# Altium footprint library SIGMA_2D.PcbLib: 200 footprints (part 11 of 13)
Each footprint in its own frame and in the unit in brackets; x right, y up, seen from the top. Pads: shape width x height; smd on the part's side, far side on the other; paste and mask are expansions set on the pad; w line width, h text height; cw(c..) or ccw(c..) is an arc to the next point about the centre after c.
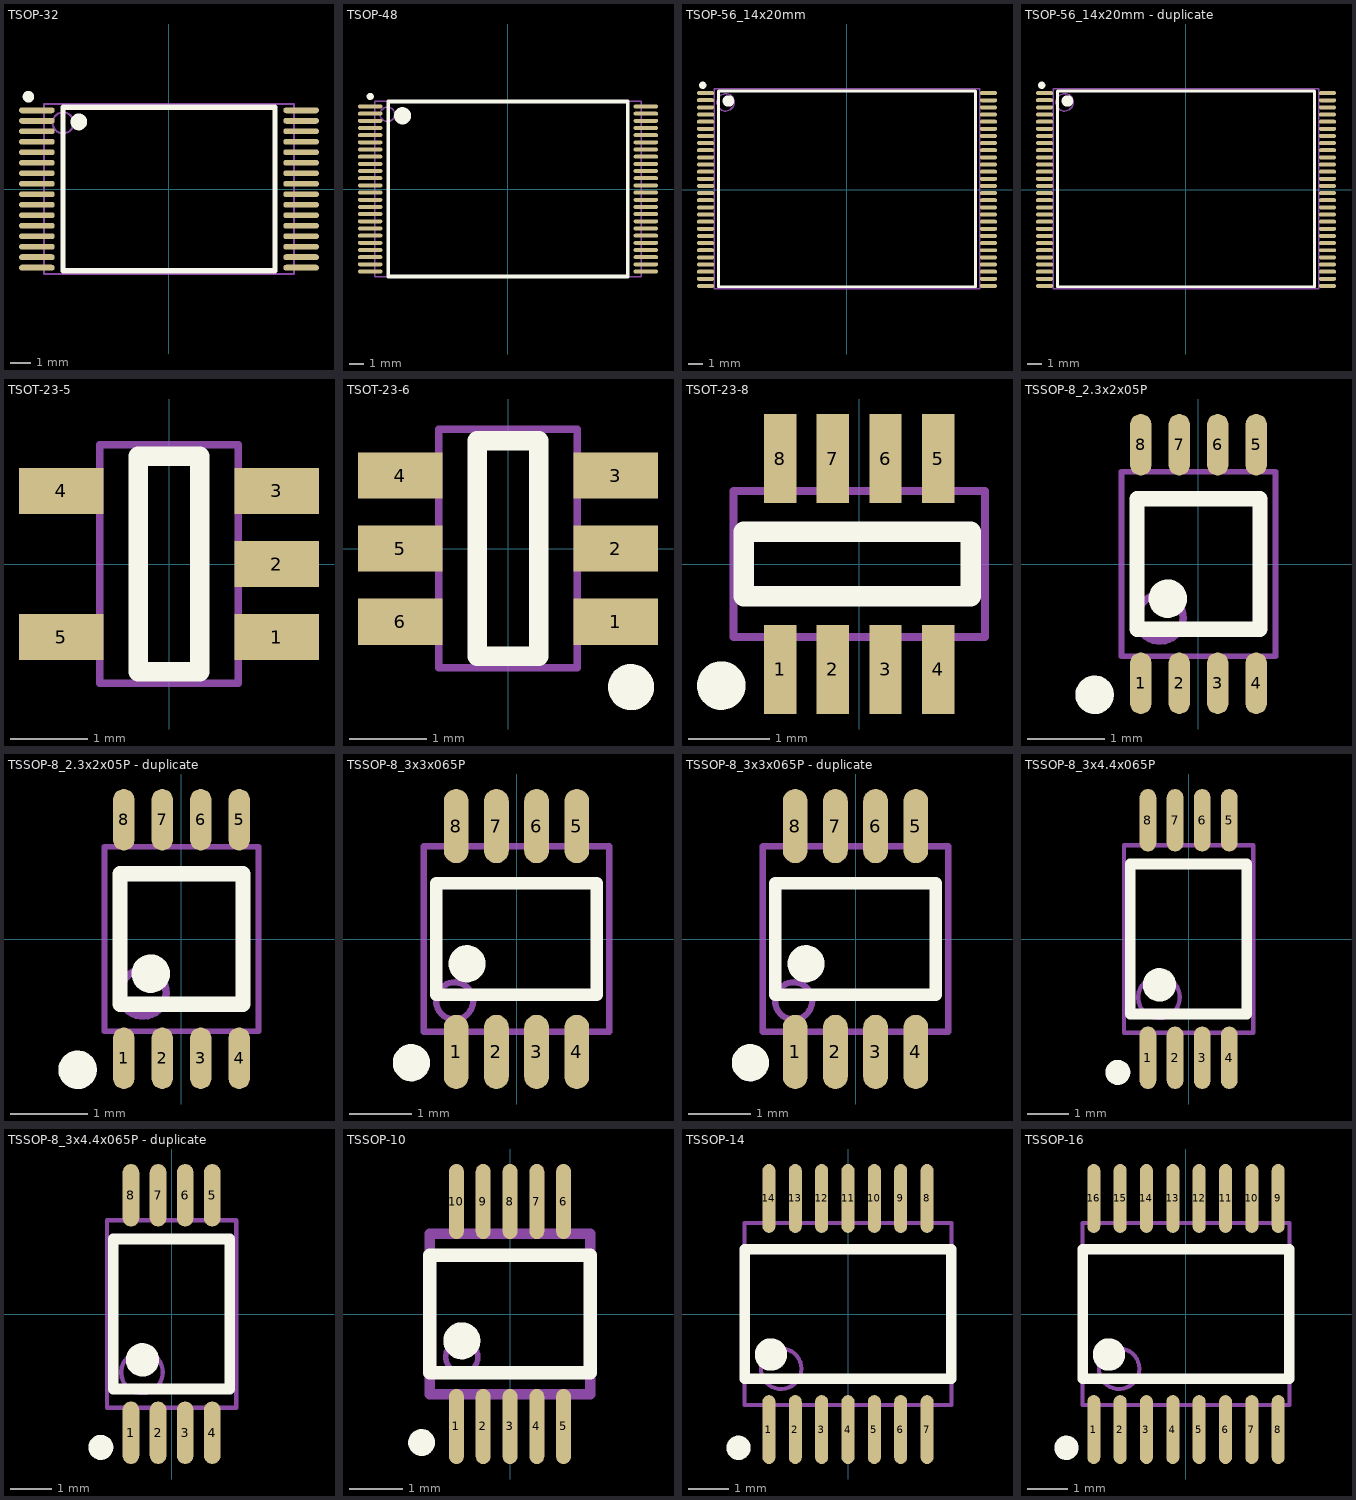
[diagram p10: the footprints below, top view; thin cyan lines are the x and y axes]

## TSOP-32 [mm]
pads (32):
  oval 1.7x0.28 smd mask+0.051: 1(-6.3,3.75) 2(-6.3,3.25) 3(-6.3,2.75) 4(-6.3,2.25) 5(-6.3,1.75) 6(-6.3,1.25) 7(-6.3,0.75) 8(-6.3,0.25) 9(-6.3,-0.25) 10(-6.3,-0.75) 11(-6.3,-1.25) 12(-6.3,-1.75) 13(-6.3,-2.25) 14(-6.3,-2.75) 15(-6.3,-3.25) 16(-6.3,-3.75) 17(6.3,-3.75) 18(6.3,-3.25) 19(6.3,-2.75) 20(6.3,-2.25) 21(6.3,-1.75) 22(6.3,-1.25) 23(6.3,-0.75) 24(6.3,-0.25) 25(6.3,0.25) 26(6.3,0.75) 27(6.3,1.25) 28(6.3,1.75) 29(6.3,2.25) 30(6.3,2.75) 31(6.3,3.25) 32(6.3,3.75)
Top Overlay:
  circle w0.4: c-4.3,3.2 r0.2
  circle w0.3: c-6.7,4.4 r0.125
  lines w0.254: -5.05,-3.9 -5.05,3.9 5.05,3.9 5.05,-3.9 -5.05,-3.9
Mechanical 13:
  circle w0.1: c-5.05,3.15 r0.5
  lines w0.1: -5.95,-4.05 -5.95,4.05 5.95,4.05 5.95,-4.05 -5.95,-4.05

## TSOP-48 [mm]
pads (48):
  oval 1.7x0.28 smd mask+0.051: 1(-9.6,5.75) 2(-9.6,5.25) 3(-9.6,4.75) 4(-9.6,4.25) 5(-9.6,3.75) 6(-9.6,3.25) 7(-9.6,2.75) 8(-9.6,2.25) 9(-9.6,1.75) 10(-9.6,1.25) 11(-9.6,0.75) 12(-9.6,0.25) 13(-9.6,-0.25) 14(-9.6,-0.75) 15(-9.6,-1.25) 16(-9.6,-1.75) 17(-9.6,-2.25) 18(-9.6,-2.75) 19(-9.6,-3.25) 20(-9.6,-3.75) 21(-9.6,-4.25) 22(-9.6,-4.75) 23(-9.6,-5.25) 24(-9.6,-5.75) 25(9.6,-5.75) 26(9.6,-5.25) 27(9.6,-4.75) 28(9.6,-4.25) 29(9.6,-3.75) 30(9.6,-3.25) 31(9.6,-2.75) 32(9.6,-2.25) 33(9.6,-1.75) 34(9.6,-1.25) 35(9.6,-0.75) 36(9.6,-0.25) 37(9.6,0.25) 38(9.6,0.75) 39(9.6,1.25) 40(9.6,1.75) 41(9.6,2.25) 42(9.6,2.75) 43(9.6,3.25) 44(9.6,3.75) 45(9.6,4.25) 46(9.6,4.75) 47(9.6,5.25) 48(9.6,5.75)
Top Overlay:
  circle w0.6: c-7.35,5.1 r0.3
  circle w0.25: c-9.6,6.45 r0.125
  lines w0.254: -8.35,-6.1 8.35,-6.1 8.35,6.1 -8.35,6.1 -8.35,-6.1
Mechanical 13:
  circle w0.1: c-8.4,5.2 r0.5
  lines w0.1: -9.3,-6.1 9.3,-6.1 9.3,6.1 -9.3,6.1 -9.3,-6.1

## TSOP-56_14x20mm [mm]
pads (56):
  oval 1.2x0.28 smd mask+0.051: 1(-9.9,6.75) 2(-9.9,6.25) 3(-9.9,5.75) 4(-9.9,5.25) 5(-9.9,4.75) 6(-9.9,4.25) 7(-9.9,3.75) 8(-9.9,3.25) 9(-9.9,2.75) 10(-9.9,2.25) 11(-9.9,1.75) 12(-9.9,1.25) 13(-9.9,0.75) 14(-9.9,0.25) 15(-9.9,-0.25) 16(-9.9,-0.75) 17(-9.9,-1.25) 18(-9.9,-1.75) 19(-9.9,-2.25) 20(-9.9,-2.75) 21(-9.9,-3.25) 22(-9.9,-3.75) 23(-9.9,-4.25) 24(-9.9,-4.75) 25(-9.9,-5.25) 26(-9.9,-5.75) 27(-9.9,-6.25) 28(-9.9,-6.75) 29(9.9,-6.75) 30(9.9,-6.25) 31(9.9,-5.75) 32(9.9,-5.25) 33(9.9,-4.75) 34(9.9,-4.25) 35(9.9,-3.75) 36(9.9,-3.25) 37(9.9,-2.75) 38(9.9,-2.25) 39(9.9,-1.75) 40(9.9,-1.25) 41(9.9,-0.75) 42(9.9,-0.25) 43(9.9,0.25) 44(9.9,0.75) 45(9.9,1.25) 46(9.9,1.75) 47(9.9,2.25) 48(9.9,2.75) 49(9.9,3.25) 50(9.9,3.75) 51(9.9,4.25) 52(9.9,4.75) 53(9.9,5.25) 54(9.9,5.75) 55(9.9,6.25) 56(9.9,6.75)
Top Overlay:
  circle w0.25: c-10.1,7.3 r0.125
  circle w0.4: c-8.3,6.2 r0.2
  lines w0.2: -9,-6.8 -9,6.9 9,6.9 9,-6.8 -9,-6.8
Mechanical 13:
  circle w0.1: c-8.5,6.1 r0.608
  lines w0.1: -9.3,-6.95 9.3,-6.95 9.3,7.05 -9.3,7.05 -9.3,-6.95

## TSOP-56_14x20mm - duplicate [mm]
pads (56):
  oval 1.2x0.28 smd mask+0.051: 1(-9.9,6.75) 2(-9.9,6.25) 3(-9.9,5.75) 4(-9.9,5.25) 5(-9.9,4.75) 6(-9.9,4.25) 7(-9.9,3.75) 8(-9.9,3.25) 9(-9.9,2.75) 10(-9.9,2.25) 11(-9.9,1.75) 12(-9.9,1.25) 13(-9.9,0.75) 14(-9.9,0.25) 15(-9.9,-0.25) 16(-9.9,-0.75) 17(-9.9,-1.25) 18(-9.9,-1.75) 19(-9.9,-2.25) 20(-9.9,-2.75) 21(-9.9,-3.25) 22(-9.9,-3.75) 23(-9.9,-4.25) 24(-9.9,-4.75) 25(-9.9,-5.25) 26(-9.9,-5.75) 27(-9.9,-6.25) 28(-9.9,-6.75) 29(9.9,-6.75) 30(9.9,-6.25) 31(9.9,-5.75) 32(9.9,-5.25) 33(9.9,-4.75) 34(9.9,-4.25) 35(9.9,-3.75) 36(9.9,-3.25) 37(9.9,-2.75) 38(9.9,-2.25) 39(9.9,-1.75) 40(9.9,-1.25) 41(9.9,-0.75) 42(9.9,-0.25) 43(9.9,0.25) 44(9.9,0.75) 45(9.9,1.25) 46(9.9,1.75) 47(9.9,2.25) 48(9.9,2.75) 49(9.9,3.25) 50(9.9,3.75) 51(9.9,4.25) 52(9.9,4.75) 53(9.9,5.25) 54(9.9,5.75) 55(9.9,6.25) 56(9.9,6.75)
Top Overlay:
  circle w0.4: c-8.3,6.2 r0.2
  circle w0.25: c-10.1,7.3 r0.125
  lines w0.2: -9,-6.8 9,-6.8 9,6.9 -9,6.9 -9,-6.8
Mechanical 13:
  circle w0.1: c-8.5,6.1 r0.608
  lines w0.1: -9.3,-6.95 -9.3,7.05 9.3,7.05 9.3,-6.95 -9.3,-6.95

## TSOT-23-5 [mm]
pads (5):
  rect 1.1x0.6 smd: 1(1.4,-0.95) 2(1.4,0) 3(1.4,0.95) 4(-1.4,0.95) 5(-1.4,-0.95)
Top Overlay:
  lines w0.254: -0.4,-1.4 0.4,-1.4 0.4,1.4 -0.4,1.4 -0.4,-1.4
Mechanical 13:
  lines w0.1: -0.9,-1.55 -0.9,1.55 0.9,1.55 0.9,-1.55 -0.9,-1.55

## TSOT-23-6 [mm]
pads (6):
  rect 1.1x0.6 smd: 1(1.4,-0.95) 2(1.4,0) 3(1.4,0.95) 4(-1.4,0.95) 5(-1.4,0) 6(-1.4,-0.95)
Top Overlay:
  circle w0.3: c1.6,-1.8 r0.15
  lines w0.254: -0.4,-1.4 0.4,-1.4 0.4,1.4 -0.4,1.4 -0.4,-1.4
Mechanical 13:
  lines w0.1: -0.9,-1.55 0.9,-1.55 0.9,1.55 -0.9,1.55 -0.9,-1.55

## TSOT-23-8 [mm]
pads (8):
  rect 0.4x1.1 smd mask+0.051: 1(-0.975,-1.3) 2(-0.325,-1.3) 3(0.325,-1.3) 4(0.975,-1.3) 5(0.975,1.3) 6(0.325,1.3) 7(-0.325,1.3) 8(-0.975,1.3)
Top Overlay:
  circle w0.3: c-1.7,-1.5 r0.15
  lines w0.254: -1.425,-0.4 -1.425,0.4 1.375,0.4 1.375,-0.4 -1.425,-0.4
Mechanical 13:
  lines w0.1: -1.55,-0.9 1.55,-0.9 1.55,0.9 -1.55,0.9 -1.55,-0.9

## TSSOP-8_2.3x2x05P [mm]
pads (8):
  oval 0.28x0.8 smd mask+0.051: 1(-0.75,-1.55) 2(-0.25,-1.55) 3(0.25,-1.55) 4(0.75,-1.55) 5(0.75,1.55) 6(0.25,1.55) 7(-0.25,1.55) 8(-0.75,1.55)
Top Overlay:
  circle w0.25: c-1.35,-1.7 r0.125
  circle w0.25: c-0.4,-0.45 r0.125
  lines w0.2: -0.8,-0.85 0.8,-0.85 0.8,0.85 -0.8,0.85 -0.8,-0.85
Mechanical 13:
  circle w0.1: c-0.5,-0.7 r0.3
  lines w0.076: -1,-1.2 1,-1.2 1,1.2 -1,1.2 -1,-1.2

## TSSOP-8_2.3x2x05P - duplicate [mm]
pads (8):
  oval 0.28x0.8 smd mask+0.051: 1(-0.75,-1.55) 2(-0.25,-1.55) 3(0.25,-1.55) 4(0.75,-1.55) 5(0.75,1.55) 6(0.25,1.55) 7(-0.25,1.55) 8(-0.75,1.55)
Top Overlay:
  circle w0.25: c-1.35,-1.7 r0.125
  circle w0.25: c-0.4,-0.45 r0.125
  lines w0.2: -0.8,-0.85 0.8,-0.85 0.8,0.85 -0.8,0.85 -0.8,-0.85
Mechanical 13:
  circle w0.1: c-0.5,-0.7 r0.3
  lines w0.076: -1,-1.2 1,-1.2 1,1.2 -1,1.2 -1,-1.2

## TSSOP-8_3x3x065P [mm]
pads (8):
  oval 0.4x1.2 smd mask+0.051: 1(-0.975,-1.825) 2(-0.325,-1.825) 3(0.325,-1.825) 4(0.975,-1.825) 5(0.975,1.825) 6(0.325,1.825) 7(-0.325,1.825) 8(-0.975,1.825)
Top Overlay:
  circle w0.3: c-1.7,-2 r0.15
  circle w0.3: c-0.8,-0.4 r0.15
  lines w0.2: -1.3,-0.9 -1.3,0.9 1.3,0.9 1.3,-0.9 -1.3,-0.9
Mechanical 13:
  circle w0.1: c-1,-1 r0.3
  lines w0.1: -1.5,-1.5 -1.5,1.5 1.5,1.5 1.5,-1.5 -1.5,-1.5

## TSSOP-8_3x3x065P - duplicate [mm]
pads (8):
  oval 0.4x1.2 smd mask+0.051: 1(-0.975,-1.825) 2(-0.325,-1.825) 3(0.325,-1.825) 4(0.975,-1.825) 5(0.975,1.825) 6(0.325,1.825) 7(-0.325,1.825) 8(-0.975,1.825)
Top Overlay:
  circle w0.3: c-1.7,-2 r0.15
  circle w0.3: c-0.8,-0.4 r0.15
  lines w0.2: -1.3,-0.9 -1.3,0.9 1.3,0.9 1.3,-0.9 -1.3,-0.9
Mechanical 13:
  circle w0.1: c-1,-1 r0.3
  lines w0.1: -1.5,-1.5 -1.5,1.5 1.5,1.5 1.5,-1.5 -1.5,-1.5

## TSSOP-8_3x4.4x065P [mm]
pads (8):
  oval 0.4x1.5 smd mask+0.051: 1(-0.975,-2.85) 2(-0.325,-2.85) 3(0.325,-2.85) 4(0.975,-2.85) 5(0.975,2.85) 6(0.325,2.85) 7(-0.325,2.85) 8(-0.975,2.85)
Top Overlay:
  circle w0.3: c-1.7,-3.2 r0.15
  circle w0.4: c-0.7,-1.1 r0.2
  lines w0.254: -1.4,-1.8 1.4,-1.8 1.4,1.8 -1.4,1.8 -1.4,-1.8
Mechanical 13:
  circle w0.1: c-0.711,-1.4 r0.5
  lines w0.1: -1.55,-2.25 1.55,-2.25 1.55,2.25 -1.55,2.25 -1.55,-2.25

## TSSOP-8_3x4.4x065P - duplicate [mm]
pads (8):
  oval 0.4x1.5 smd mask+0.051: 1(-0.975,-2.85) 2(-0.325,-2.85) 3(0.325,-2.85) 4(0.975,-2.85) 5(0.975,2.85) 6(0.325,2.85) 7(-0.325,2.85) 8(-0.975,2.85)
Top Overlay:
  circle w0.4: c-0.7,-1.1 r0.2
  circle w0.3: c-1.7,-3.2 r0.15
  lines w0.254: -1.4,-1.8 -1.4,1.8 1.4,1.8 1.4,-1.8 -1.4,-1.8
Mechanical 13:
  circle w0.1: c-0.711,-1.4 r0.5
  lines w0.1: -1.55,-2.25 -1.55,2.25 1.55,2.25 1.55,-2.25 -1.55,-2.25

## TSSOP-10 [mm]
pads (10):
  oval 0.28x1.4 smd mask+0.051: 1(-1,-2.1) 2(-0.5,-2.1) 3(0,-2.1) 4(0.5,-2.1) 5(1,-2.1) 6(1,2.1) 7(0.5,2.1) 8(0,2.1) 9(-0.5,2.1) 10(-1,2.1)
Top Overlay:
  circle w0.35: c-0.9,-0.5 r0.17
  circle w0.25: c-1.65,-2.4 r0.125
  lines w0.254: -1.5,-1.1 1.5,-1.1 1.5,1.1 -1.5,1.1 -1.5,-1.1
Mechanical 13:
  circle w0.1: c-0.9,-0.8 r0.3
  lines w0.2: -1.5,-1.5 -1.5,1.5 1.5,1.5 1.5,-1.5 -1.5,-1.5

## TSSOP-14 [mm]
pads (14):
  oval 0.32x1.7 smd: 1(-1.95,-2.85) 2(-1.3,-2.85) 3(-0.65,-2.85) 4(0,-2.85) 5(0.65,-2.85) 6(1.3,-2.85) 7(1.95,-2.85) 8(1.95,2.85) 9(1.3,2.85) 10(0.65,2.85) 11(0,2.85) 12(-0.65,2.85) 13(-1.3,2.85) 14(-1.95,2.85)
Top Overlay:
  circle w0.4: c-1.9,-1 r0.2
  circle w0.3: c-2.7,-3.3 r0.15
  lines w0.254: -2.55,-1.6 2.55,-1.6 2.55,1.6 -2.55,1.6 -2.55,-1.6
Mechanical 13:
  circle w0.1: c-1.65,-1.35 r0.5
  lines w0.1: -2.55,-2.25 2.55,-2.25 2.55,2.25 -2.55,2.25 -2.55,-2.25

## TSSOP-16 [mm]
pads (16):
  oval 0.32x1.7 smd: 1(-2.275,-2.85) 2(-1.625,-2.85) 3(-0.975,-2.85) 4(-0.325,-2.85) 5(0.325,-2.85) 6(0.975,-2.85) 7(1.625,-2.85) 8(2.275,-2.85) 9(2.275,2.85) 10(1.625,2.85) 11(0.975,2.85) 12(0.325,2.85) 13(-0.325,2.85) 14(-0.975,2.85) 15(-1.625,2.85) 16(-2.275,2.85)
Top Overlay:
  circle w0.3: c-2.95,-3.3 r0.15
  circle w0.4: c-1.9,-1 r0.2
  lines w0.254: -2.55,-1.6 -2.55,1.6 2.55,1.6 2.55,-1.6 -2.55,-1.6
Mechanical 13:
  circle w0.1: c-1.65,-1.35 r0.5
  lines w0.1: -2.55,-2.25 -2.55,2.25 2.55,2.25 2.55,-2.25 -2.55,-2.25